# Altium footprint library DO.PcbLib: 6 footprints
Each footprint in its own frame and in the unit in brackets; x right, y up, seen from the top. Pads: shape width x height; smd on the part's side, far side on the other; paste and mask are expansions set on the pad; w line width, h text height; cw(c..) or ccw(c..) is an arc to the next point about the centre after c.
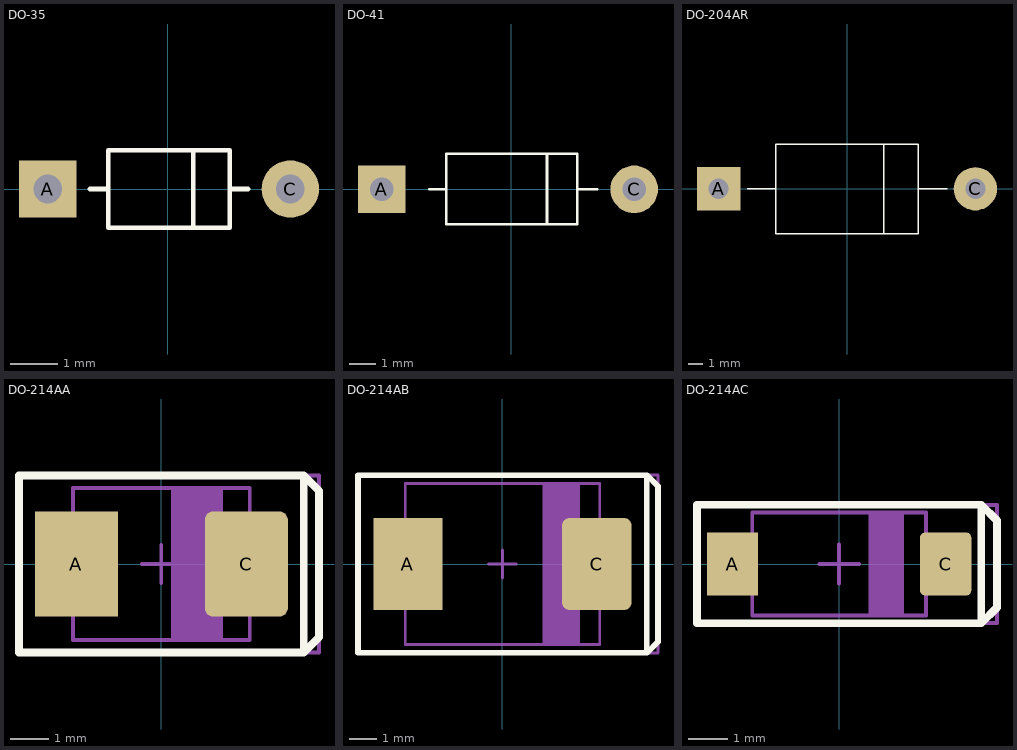
[diagram p0: the footprints below, top view; thin cyan lines are the x and y axes]

## DO-35 [mm]
height 3
pads (2):
  rect 1.2x1.2 hole 0.6: A(-2.515,0)
  round 1.2 hole 0.6: C(2.565,0)
Top Overlay:
  lines w0.1: -1.626,0 -1.245,0 ; 0.533,-0.762 0.533,0.762 ; 1.295,0 1.676,0 ; -1.245,-0.813 -1.245,0.813 1.295,0.813 1.295,-0.813 -1.245,-0.813
3D body "User Library-1N4148.step": height 1.83, standoff -1, extent -2.731,-0.825 2.781,0.825

## DO-41 [mm]
height 3
pads (2):
  rect 1.8x1.8 hole 0.9: A(-4.902,0)
  round 1.8 hole 0.9: C(4.648,0)
Top Overlay:
  lines w0.1: -3.099,0 -2.464,0 ; 1.346,-1.27 1.346,1.27 ; 2.489,0 3.251,0 ; -2.464,-1.321 2.489,-1.321 2.489,1.346 -2.464,1.346 -2.464,-1.321
3D body "User Library-DO-41_375mil.STEP": height 2.83, standoff -2.52, extent -5.396,-1.346 4.989,1.354

## DO-204AR [mm]
height 5.5
pads (2):
  rect 3x3 hole 1.4: A(-8.9,0)
  round 3 hole 1.4: C(8.9,0)
Top Overlay:
  lines w0.1: -6.909,0 -4.928,0 ; 2.54,-3.099 2.54,3.073 ; 4.928,0 6.934,0 ; -4.928,-3.124 -4.928,3.099 4.928,3.099 4.928,-3.124 -4.928,-3.124
3D body "User Library-DO-204AR-1.step": height 6.22, standoff -2, extent -9.5,-3.126 9.55,3.099

## DO-214AA [mm]
height 2.5
pads (2):
  rect 2.159x2.743 smd: A(-2.21,0)
  rrect20% 2.159x2.743 smd: C(2.21,0)
Top Overlay:
  lines w0.2: 3.7,-2.3 3.7,-2.3 ; 3.7,-2.3 4.1,-1.9 4.1,1.9 3.7,2.3 ; 3.7,-2.3 3.7,2.3 ; 3.7,-2.3 -3.7,-2.3 -3.7,2.3 3.7,2.3 ; 3.7,2.3 3.7,2.3
Top Package:
  rectangle: 0.325,-1.975 1.575,2
  lines w0.1: -2.3,-1.1 -2.8,-1.1 -2.8,1.1 -2.3,1.1 ; 0.3,-1.95 0.3,1.975 ; 1.55,-1.975 1.55,1.975 ; 2.3,-1.1 2.8,-1.1 2.8,1.1 2.3,1.1 ; -2.3,-1.975 -2.3,1.975 2.3,1.975 2.3,-1.975 -2.3,-1.975
Top Border:
  lines w0.1: -0.5,0 0.5,0 ; 0,-0.5 0,0.5 ; -3.7,-2.3 -3.7,2.3 4.1,2.3 4.1,-2.3 -3.7,-2.3
3D body "User Library-DO-214AA_SMB.step": height 2.2, standoff -0.05, extent -2.65,-1.85 2.65,1.85

## DO-214AB [mm]
height 2.5
pads (2):
  rect 2.5x3.3 smd: A(-3.4,0)
  rrect20% 2.5x3.3 smd: C(3.4,0)
Top Overlay:
  lines w0.2: 5.2,-3.2 5.2,3.2 ; 5.2,-3.2 -5.2,-3.2 -5.2,3.2 5.2,3.2 ; 5.2,-3.2 5.6,-2.8 5.6,2.8 5.2,3.2 ; 5.2,3.2 5.2,3.2
Top Package:
  rectangle: 1.525,-2.875 2.775,2.875
  lines w0.1: -3.5,-1.4 -4,-1.4 -4,1.4 -3.5,1.4 ; 1.5,-2.9 1.5,2.9 ; 2.75,-2.9 2.75,2.9 ; 3.5,-1.5 4,-1.5 4,1.5 3.5,1.5 ; -3.5,-2.9 3.5,-2.9 3.5,2.9 -3.5,2.9 -3.5,-2.9
Top Border:
  lines w0.1: -0.5,0 0.5,0 ; 0,-0.5 0,0.5 ; -5.2,-3.2 5.6,-3.2 5.6,3.2 -5.2,3.2 -5.2,-3.2
3D body "DO-214AB.step": height 2.3, standoff 0, extent -3.975,-2.95 3.975,2.95

## DO-214AC [mm]
height 2.5
pads (2):
  rect 1.3x1.6 smd: A(-2.7,0)
  rrect20% 1.3x1.6 smd: C(2.7,0)
Top Overlay:
  lines w0.2: 3.6,-1.5 -3.6,-1.5 -3.6,1.5 3.6,1.5 ; 3.6,-1.5 3.6,1.5 ; 3.6,-1.5 4,-1.1 4,1.1 3.6,1.5
Top Package:
  rectangle: 0.8,-1.3 1.6,1.3
  lines w0.1: -2.2,-0.7 -2.6,-0.7 -2.6,0.7 -2.2,0.7 ; 0.8,-1.3 0.8,1.3 ; 1.6,-1.3 1.6,1.3 ; 2.2,-0.7 2.6,-0.7 2.6,0.7 2.2,0.7 ; -2.2,-1.3 2.2,-1.3 2.2,1.3 -2.2,1.3 -2.2,-1.3
Top Border:
  lines w0.1: -0.5,0 0.5,0 ; 0,-0.5 0,0.5 ; -3.6,-1.5 4,-1.5 4,1.5 -3.6,1.5 -3.6,-1.5
3D body "DO-214AC.STEP": height 2.3, standoff -0.1, extent -2.6,-1.3 2.6,1.3